# Altium schematic symbol library Microcontrollers STM.SchLib: 4 symbols
Pins are listed as number, name and electrical type; pins without a type are passive.

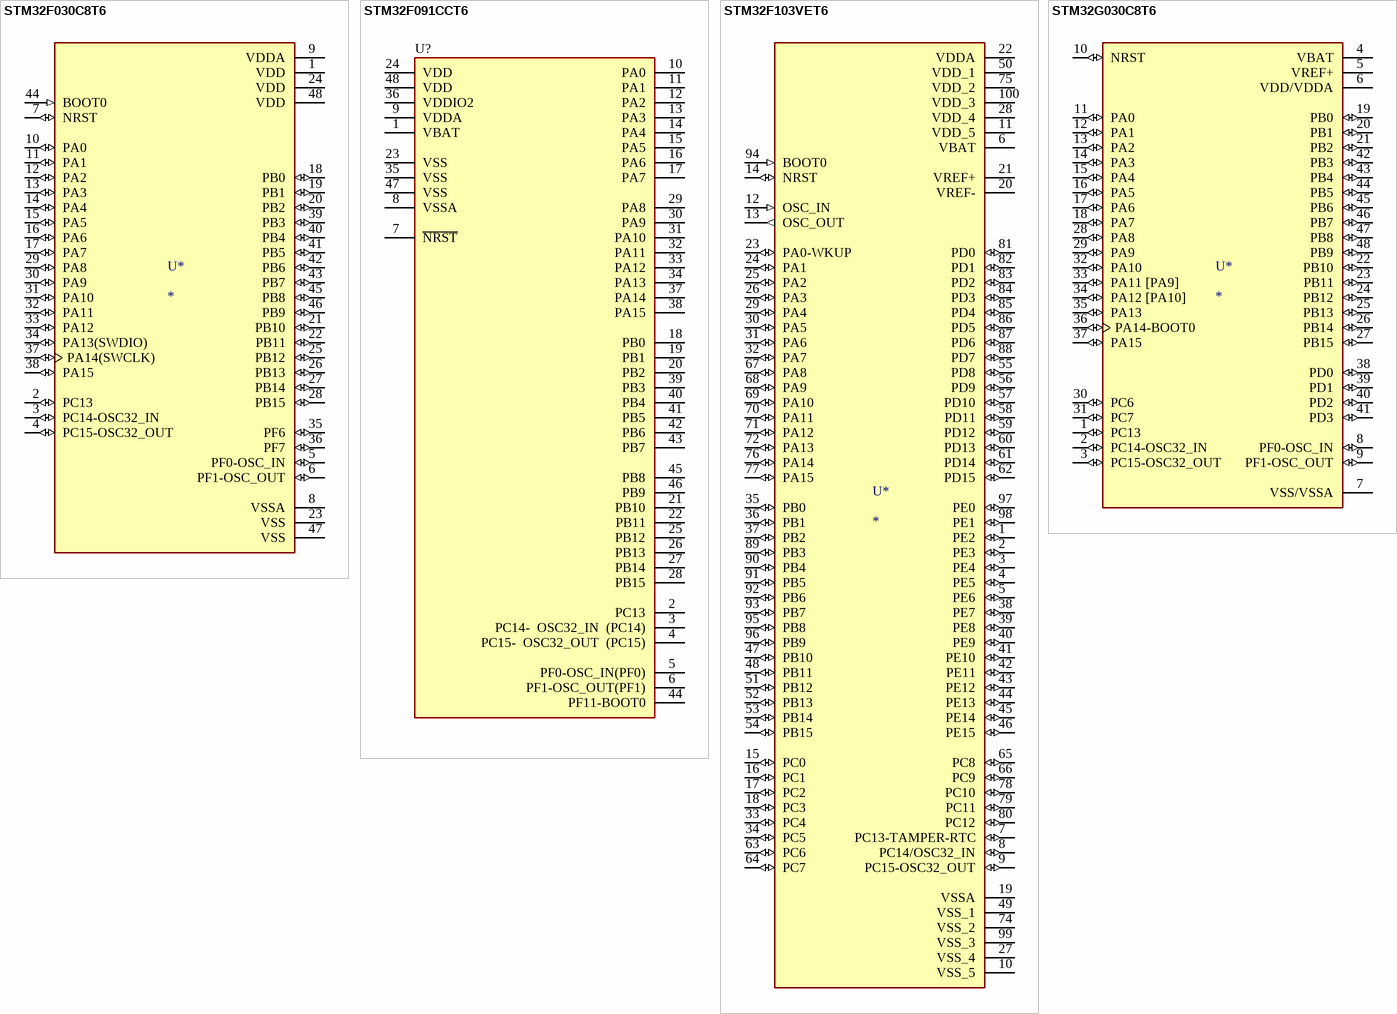
[diagram p0: symbols STM32F030C8T6 to STM32G030C8T6]

## STM32F030C8T6
designator U*
32-Bit FLASH ARM® Cortex®-M0 48MHz 2.4V ~ 3.6V LQFP-48_7x7x05P ST Microelectronics RoHS; ComponentLink1Description: LCSC - STMicroelectronics STM32F030C8T6; ComponentLink1URL: https://lcsc.com/product-detail/ST-Microelectronics_STMicroelectronics_STM32F030C8T6_STM32F030C8T6_C23922.html/?href=jlc-SMT; LCSC Part #: C23922; JLCPCB Part Type: Basic
footprint ST LQFP-48 7x7MM (LQFP, 48-Leads, Body 7.00x7.00mm, Pitch 0.50mm, IPC Medium Density)
pins: 1 VDD (power), 2 PC13 (io), 3 PC14-OSC32_IN (io), 4 PC15-OSC32_OUT (io), 5 PF0-OSC_IN (io), 6 PF1-OSC_OUT (io), 7 NRST (io), 8 VSSA (power), 9 VDDA (power), 10 PA0 (io), 11 PA1 (io), 12 PA2 (io), 13 PA3 (io), 14 PA4 (io), 15 PA5 (io), 16 PA6 (io), 17 PA7 (io), 18 PB0 (io), 19 PB1 (io), 20 PB2 (io), 21 PB10 (io), 22 PB11 (io), 23 VSS (power), 24 VDD (power), 25 PB12 (io), 26 PB13 (io), 27 PB14 (io), 28 PB15 (io), 29 PA8 (io), 30 PA9 (io), 31 PA10 (io), 32 PA11 (io), 33 PA12 (io), 34 PA13(SWDIO) (io), 35 PF6 (io), 36 PF7 (io), 37 PA14(SWCLK) (io), 38 PA15 (io), 39 PB3 (io), 40 PB4 (io), 41 PB5 (io), 42 PB6 (io), 43 PB7 (io), 44 BOOT0 (in), 45 PB8 (io), 46 PB9 (io), 47 VSS (power), 48 VDD (power)

## STM32F091CCT6
designator U?
38 2V ~ 3.6V 32-Bit ARM® Cortex®-M0 48MHz FLASH LQFP-48_7x7x05P ST Microelectronics ROHS; ComponentLink1Description: LCSC - STM32F091CCT6; ComponentLink1URL: https://lcsc.com/product-detail/ST-Microelectronics_STMicroelectronics-STM32F091CCT6_C129795.html; LCSC Part #: C129795
footprint ST LQFP-48 7x7MM (LQFP, 48-Leads, Body 7.00x7.00mm, Pitch 0.50mm, IPC Medium Density)
pins: 1 VBAT (power) "Backup power supply", 2 PC13 "WKUP2,  RTC_TAMP1,  RTC_TS,  RTC_OUT", 3 PC14-  OSC32_IN  (PC14) "OSC32_IN", 4 PC15-  OSC32_OUT  (PC15) "OSC32_OUT", 5 PF0-OSC_IN(PF0) "CRS_ SYNC, I2C1_SDA OSC_IN", 6 PF1-OSC_OUT(PF1) "I2C1_SCL OSC_OUT", 7 ~{NRST} "Device reset input / internal reset output  (active low)", 8 VSSA (power) "Analog ground", 9 VDDA (power) "Analog power supply", 10 PA0 "USART2_CTS,  TIM2_CH1_ETR,  TSC_G1_IO1,  USART4_TX  COMP1_OUT  RTC_ TAMP2,  WKUP1,  ADC_IN0,  COMP1_INM6", 11 PA1 "USART2_RTS,  TIM2_CH2,  TIM15_CH1N,  TSC_G1_IO2,  USART4_RX,  EVENTOUT  ADC_IN1,  COMP1_INP", 12 PA2 "USART2_TX, TIM2_CH3,  TIM15_CH1,  TSC_G1_IO3  COMP2_OUT  ADC_IN2,  WKUP4,  COMP2_INM6", 13 PA3 "USART2_RX,TIM2_CH4,  TIM15_CH2,  TSC_G1_IO4  ADC_IN3,  COMP2_INP", 14 PA4 "SPI1_NSS, I2S1_WS,  TIM14_CH1,  TSC_G2_IO1,  USART2_CK,  USART6_TX  COMP1_INM4,  COMP2_INM4,  ADC_IN4,  DAC_OUT1", 15 PA5 "SPI1_SCK, I2S1_CK,  CEC,  TIM2_CH1_ETR,  TSC_G2_IO2,  USART6_RX  COMP1_INM5,  COMP2_INM5,  ADC_IN5,  DAC_OUT2", 16 PA6 "SPI1_MISO, I2S1_MCK,  TIM3_CH1, TIM1_BKIN,  TIM16_CH1,  COMP1_OUT,  TSC_G2_IO3,  EVENTOUT,  USART3_CTS  ADC_IN6", 17 PA7 "SPI1_MOSI, I2S1_SD,  TIM3_CH2, TIM14_CH1,  TIM1_CH1N, TIM17_CH1,  COMP2_OUT,  TSC_G2_IO4,  EVENTOUT  ADC_IN7", 18 PB0 "TIM3_CH3, TIM1_CH2N,  TSC_G3_IO2,  EVENTOUT,  USART3_CK  ADC_IN8", 19 PB1 "TIM3_CH4,  USART3_RTS,  TIM14_CH1, TIM1_CH3N,  TSC_G3_IO3  ADC_IN9", 20 PB2 "TSC_G3_IO4", 21 PB10 "SPI2_SCK, I2S2_CK,  I2C2_SCL,  USART3_TX, CEC,  TSC_SYNC, TIM2_CH3", 22 PB11 "USART3_RX, TIM2_CH4,  EVENTOUT,  TSC_G6_IO1,  I2C2_SDA", 23 VSS (power) "Ground", 24 VDD (power) "Digital power supply", 25 PB12 "TIM1_BKIN, TIM15_BKIN,  SPI2_NSS, I2S2_WS,  USART3_CK,  TSC_G6_IO2,  EVENTOUT", 26 PB13 "SPI2_SCK, I2S2_CK,  I2C2_SCL,  USART3_CTS,  TIM1_CH1N,  TSC_G6_IO3", 27 PB14 "SPI2_MISO, I2S2_MCK,  I2C2_SDA,  USART3_RTS,  TIM1_CH2N, TIM15_CH1,  TSC_G6_IO4", 28 PB15 "SPI2_MOSI, I2S2_SD,  TIM1_CH3N,  TIM15_CH1N,  TIM15_CH2  WKUP7,  RTC_REFIN", 29 PA8 "USART1_CK, TIM1_CH1,  EVENTOUT, MCO,  CRS_SYNC", 30 PA9 "USART1_TX, TIM1_CH2,  TIM15_BKIN, MCO,  TSC_G4_IO1, I2C1_SCL", 31 PA10 "USART1_RX, TIM1_CH3,  TIM17_BKIN,  TSC_G4_IO2, I2C1_SDA", 32 PA11 "CAN_RX, USART1_CTS,  TIM1_CH4, COMP1_OUT,  TSC_G4_IO3,  EVENTOUT, I2C2_SCL", 33 PA12 "CAN_TX, USART1_RTS,  TIM1_ETR, COMP2_OUT,  TSC_G4_IO4,  EVENTOUT, I2C2_SDA", 34 PA13 "IR_OUT, SWDIO", 35 VSS (power) "Ground", 36 VDDIO2 (power) "Digital power supply", 37 PA14 "USART2_TX, SWCLK", 38 PA15 "SPI1_NSS, I2S1_WS,  USART2_RX,  USART4_RTS,  TIM2_CH1_ETR,  EVENTOUT", 39 PB3 "SPI1_SCK, I2S1_CK,  TIM2_CH2, TSC_G5_IO1,  EVENTOUT, USART5_TX", 40 PB4 "SPI1_MISO, I2S1_MCK,  TIM17_BKIN, TIM3_CH1,  TSC_G5_IO2,  EVENTOUT, USART5_RX", 41 PB5 "SPI1_MOSI, I2S1_SD,  I2C1_SMBA,  TIM16_BKIN,  TIM3_CH2,  USART5_CK_RTS  WKUP6", 42 PB6 "I2C1_SCL, USART1_TX,  TIM16_CH1N,  TSC_G5_I03", 43 PB7 "I2C1_SDA, USART1_RX,  USART4_CTS,  TIM17_CH1N,  TSC_G5_IO4", 44 PF11-BOOT0 "Boot memory  selection", 45 PB8 "I2C1_SCL, CEC,  TIM16_CH1, TSC_SYNC,  CAN_RX", 46 PB9 "SPI2_NSS, I2S2_WS,  I2C1_SDA, IR_OUT,  TIM17_CH1, EVENTOUT,  CAN_TX", 47 VSS (power) "Ground", 48 VDD (power) "Digital power supply"

## STM32F103VET6
designator U*
32-Bit ARM® Cortex®-M3 72MHz FLASH 80 LQFP-100_14x14x05P ST Microelectronics ROHS; ComponentLink1Description: LCSC - STM32F103VET6; ComponentLink1URL: https://lcsc.com/product-detail/ST-Microelectronics_STMicroelectronics_STM32F103VET6_STM32F103VET6_C8308.html/?href=jlc-SMT; LCSC Part #: C8308; JLCPCB Part Type: Extended
footprint ST LQFP-100 14x14MM (Thin QFP, 100-Leads, Body 14x14mm, Pitch 0.5mm, ST Recommended)
pins: 1 PE2 (io), 2 PE3 (io), 3 PE4 (io), 4 PE5 (io), 5 PE6 (io), 6 VBAT (power), 7 PC13-TAMPER-RTC (io), 8 PC14/OSC32_IN (io), 9 PC15-OSC32_OUT (io), 10 VSS_5 (power), 11 VDD_5 (power), 12 OSC_IN (in), 13 OSC_OUT (out), 14 NRST (io), 15 PC0 (io), 16 PC1 (io), 17 PC2 (io), 18 PC3 (io), 19 VSSA (power), 20 VREF- (power), 21 VREF+ (power), 22 VDDA (power), 23 PA0-WKUP (io), 24 PA1 (io), 25 PA2 (io), 26 PA3 (io), 27 VSS_4 (power), 28 VDD_4 (power), 29 PA4 (io), 30 PA5 (io), 31 PA6 (io), 32 PA7 (io), 33 PC4 (io), 34 PC5 (io), 35 PB0 (io), 36 PB1 (io), 37 PB2 (io), 38 PE7 (io), 39 PE8 (io), 40 PE9 (io), 41 PE10 (io), 42 PE11 (io), 43 PE12 (io), 44 PE13 (io), 45 PE14 (io), 46 PE15 (io), 47 PB10 (io), 48 PB11 (io), 49 VSS_1 (power), 50 VDD_1 (power), 51 PB12 (io), 52 PB13 (io), 53 PB14 (io), 54 PB15 (io), 55 PD8 (io), 56 PD9 (io), 57 PD10 (io), 58 PD11 (io), 59 PD12 (io), 60 PD13 (io), 61 PD14 (io), 62 PD15 (io), 63 PC6 (io), 64 PC7 (io), 65 PC8 (io), 66 PC9 (io), 67 PA8 (io), 68 PA9 (io), 69 PA10 (io), 70 PA11 (io), 71 PA12 (io), 72 PA13 (io), 74 VSS_2 (power), 75 VDD_2 (power), 76 PA14 (io), 77 PA15 (io), 78 PC10 (io), 79 PC11 (io), 80 PC12 (io), 81 PD0 (io), 82 PD1 (io), 83 PD2 (io), 84 PD3 (io), 85 PD4 (io), 86 PD5 (io), 87 PD6 (io), 88 PD7 (io), 89 PB3 (io), 90 PB4 (io), 91 PB5 (io), 92 PB6 (io), 93 PB7 (io), 94 BOOT0 (in), 95 PB8 (io), 96 PB9 (io), 97 PE0 (io), 98 PE1 (io), 99 VSS_3 (power), 100 VDD_3 (power)

## STM32G030C8T6
designator U*
32-Bit FLASH ARM® Cortex®-M0+ 64MHz 2.0V ~ 3.6V LQFP-48_7x7x05P ST Microelectronics RoHS; ComponentLink1Description: LCSC - STMicroelectronics STM32G030C8T6; ComponentLink1URL: https://lcsc.com/product-detail/ST-Microelectronics_STMicroelectronics-STM32G030C8T6_C529329.html
footprint ST LQFP-48 7x7MM (LQFP, 48-Leads, Body 7.00x7.00mm, Pitch 0.50mm, IPC Medium Density)
pins: 1 PC13 (io), 2 PC14-OSC32_IN (io), 3 PC15-OSC32_OUT (io), 4 VBAT (power), 5 VREF+ (power), 6 VDD/VDDA (power), 7 VSS/VSSA (power), 8 PF0-OSC_IN (io), 9 PF1-OSC_OUT (io), 10 NRST (io), 11 PA0 (io), 12 PA1 (io), 13 PA2 (io), 14 PA3 (io), 15 PA4 (io), 16 PA5 (io), 17 PA6 (io), 18 PA7 (io), 19 PB0 (io), 20 PB1 (io), 21 PB2 (io), 22 PB10 (io), 23 PB11 (io), 24 PB12 (io), 25 PB13 (io), 26 PB14 (io), 27 PB15 (io), 28 PA8 (io), 29 PA9 (io), 30 PC6 (io), 31 PC7 (io), 32 PA10 (io), 33 PA11 [PA9] (io), 34 PA12 [PA10] (io), 35 PA13 (io), 36 PA14-BOOT0 (io), 37 PA15 (io), 38 PD0 (io), 39 PD1 (io), 40 PD2 (io), 41 PD3 (io), 42 PB3 (io), 43 PB4 (io), 44 PB5 (io), 45 PB6 (io), 46 PB7 (io), 47 PB8 (io), 48 PB9 (io)